# Altium footprint library xt60.PcbLib: 1 footprints
Each footprint in its own frame and in the unit in brackets; x right, y up, seen from the top. Pads: shape width x height; smd on the part's side, far side on the other; paste and mask are expansions set on the pad; w line width, h text height; cw(c..) or ccw(c..) is an arc to the next point about the centre after c.
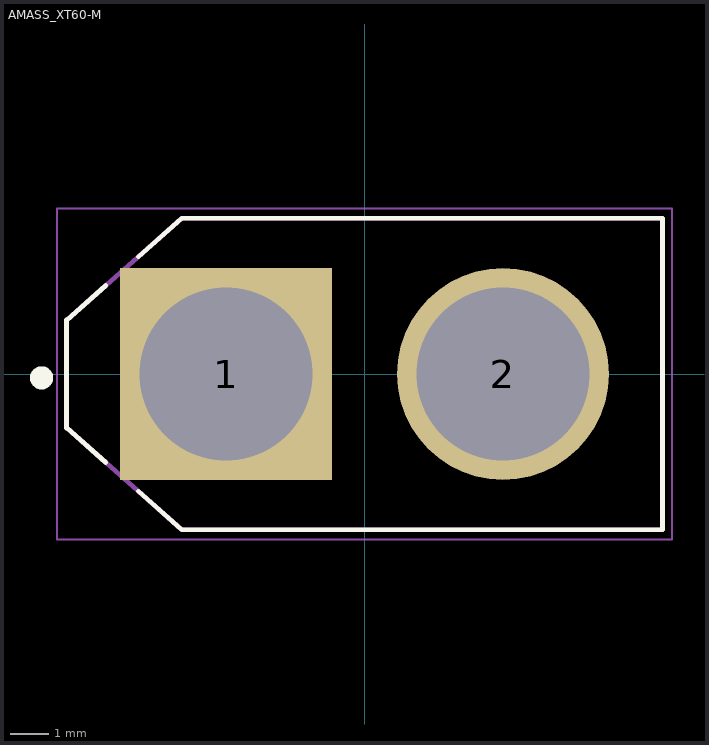
[diagram p0: the footprint, top view; thin cyan lines are the x and y axes]

## AMASS_XT60-M [mm]
pads (2):
  rect 5.516x5.516 hole 4.5: 1(-3.6,0)
  round 5.516 hole 4.5: 2(3.6,0)
Top Overlay:
  circle w0.3: c-8.4,-0.1 r0.15
  lines w0.127: -6.73,-2.3 -7.75,-1.4 -7.75,1.4 -6.73,2.3 ; -5.88,-3.05 -4.75,-4.05 7.75,-4.05 7.75,4.05 -4.75,4.05 -5.88,3.05
Mechanical 13:
  lines w0.127: -7.75,-1.4 -7.75,1.4 -4.75,4.05 7.75,4.05 7.75,-4.05 -4.75,-4.05 -7.75,-1.4
Mechanical 15:
  lines w0.05: -8,-4.3 -8,4.3 8,4.3 8,-4.3 -8,-4.3
3D body "XT60-M--3DModel-STEP-56544.STEP": height 15.88, standoff -4.62, extent -7.75,-4.05 7.75,4.05